# Altium schematic symbol library CD4051BPWR.Schlib: 1 symbol
Pins are listed as number, name and electrical type; pins without a type are passive.

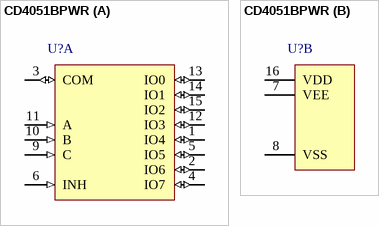
[diagram p0: symbol CD4051BPWR]

## CD4051BPWR
designator U?
part A pins: 1 IO4 (io), 2 IO6 (io), 3 COM (io), 4 IO7 (io), 5 IO5 (io), 6 INH (in), 9 C (in), 10 B (in), 11 A (in), 12 IO3 (io), 13 IO0 (io), 14 IO1 (io), 15 IO2 (io)
part B pins: 7 VEE (power), 8 VSS (power), 16 VDD (power)